# EAGLE library part TPS62130AQRGTRQ1 (library ruark2)
Buck Switching Regulator IC Positive Adjustable 0.9V 1 Output 3A 16-VFQFN Exposed Pad
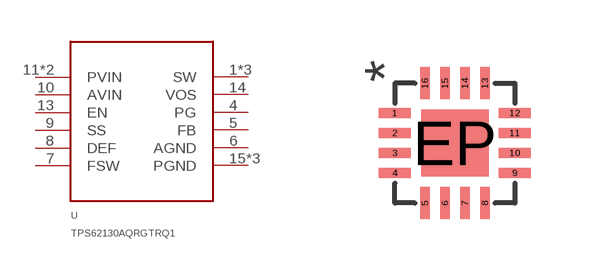
[diagram p98: symbol with the pads of QFN24-33; footprint QFN24-33]

Designator prefix U

## TPS62130AQRGTRQ1 (PARTNO: 296-40834-1-ND)  [QFN24-33]
1  SW
2  SW
3  SW
4  PG
5  FB
6  AGND
7  FSW
8  DEF
9  SS
10  AVIN
11  PVIN
12  PVIN
13  EN
14  VOS
15  PGND
16  PGND
EP  PGND

## Footprint QFN24-33 (pad centres in mm)
smd 0.8 x 0.24: 1 -1.5,0.75; 2 -1.5,0.25; 3 -1.5,-0.25; 4 -1.5,-0.75; 9 1.5,-0.75; 10 1.5,-0.25; 11 1.5,0.25; 12 1.5,0.75
smd 0.24 x 0.8: 5 -0.75,-1.5; 6 -0.25,-1.5; 7 0.25,-1.5; 8 0.75,-1.5; 13 0.75,1.5; 14 0.25,1.5; 15 -0.25,1.5; 16 -0.75,1.5
smd 1.68 x 1.68: EP 0,0